# EAGLE library part MECH_SPINDLE_BRUSHLESS (library Andrew-Mechanical)
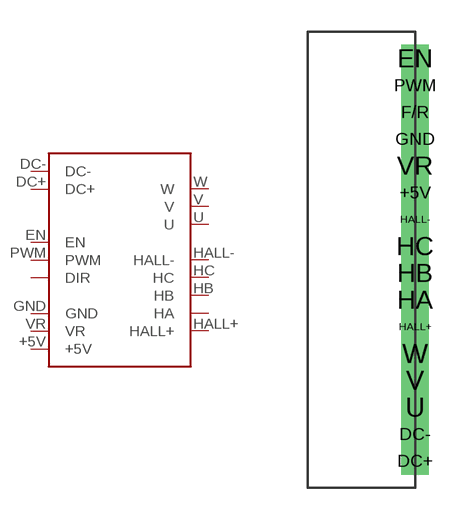
[diagram p0: symbol with the pads of MECH_SPINDLE; footprint MECH_SPINDLE]

Designator prefix -

## MECH_SPINDLE_BRUSHLESS  [MECH_SPINDLE]
+5V  +5V
DC+  DC+
DC-  DC-
EN  EN
F/R  DIR
GND  GND
HA  HA
HALL+  HALL+
HALL-  HALL-
HB  HB
HC  HC
PWM  PWM
U  U
V  V
VR  VR
W  W

## Footprint MECH_SPINDLE (pad centres in mm)
drill 0.8 pad 1.016 square: +5V 5.08,15.24; DC+ 5.08,2.54; DC- 5.08,3.81; EN 5.08,21.59; F/R 5.08,19.05; GND 5.08,17.78; HA 5.08,10.16; HALL+ 5.08,8.89; HALL- 5.08,13.97; HB 5.08,11.43; HC 5.08,12.7; PWM 5.08,20.32; U 5.08,5.08; V 5.08,6.35; VR 5.08,16.51; W 5.08,7.62